# Altium schematic symbol library Terminal Block.SchLib: 1 symbol
Pins are listed as number, name and electrical type; pins without a type are passive.

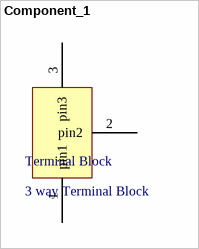
[diagram p0: symbol Component_1]

## Component_1
designator Terminal Block, comment 3 way Terminal Block
footprint PCTB3N
pins: 1 pin1, 2 pin2, 3 pin3